# EAGLE library part RAZOR_BOARD (library FAE)
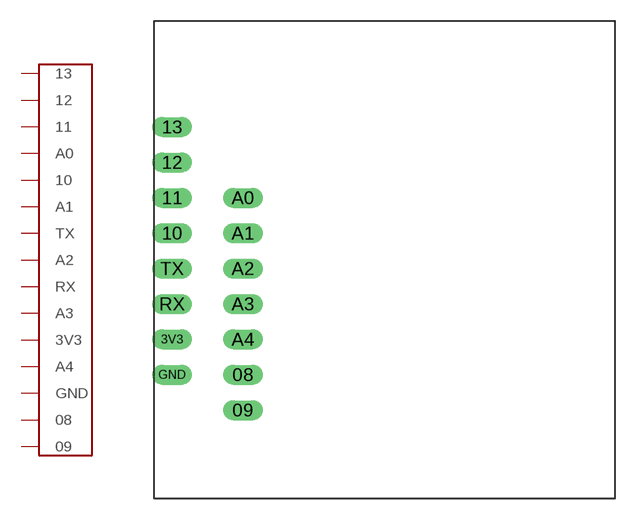
[diagram p0: symbol with the pads of RAZOR_BOARD; footprint RAZOR_BOARD]

Designator prefix -

## RAZOR_BOARD  [RAZOR_BOARD]
3V3  3V3
08  08
09  09
10  10
11  11
12  12
13  13
A0  A0
A1  A1
A2  A2
A3  A3
A4  A4
GND  GND
RX  RX
TX  TX

## Footprint RAZOR_BOARD (pad centres in mm)
drill 0.3 pad 1.422 long: 3V3 -2.54,-5.08; 08 2.54,-7.62; 09 2.54,-10.16; 10 -2.54,2.54; 11 -2.54,5.08; 12 -2.54,7.62; 13 -2.54,10.16; A0 2.54,5.08; A1 2.54,2.54; A2 2.54,0; A3 2.54,-2.54; A4 2.54,-5.08; GND -2.54,-7.62; RX -2.54,-2.54; TX -2.54,0